# EAGLE library part ESP-01-SLOT (library home-mind)
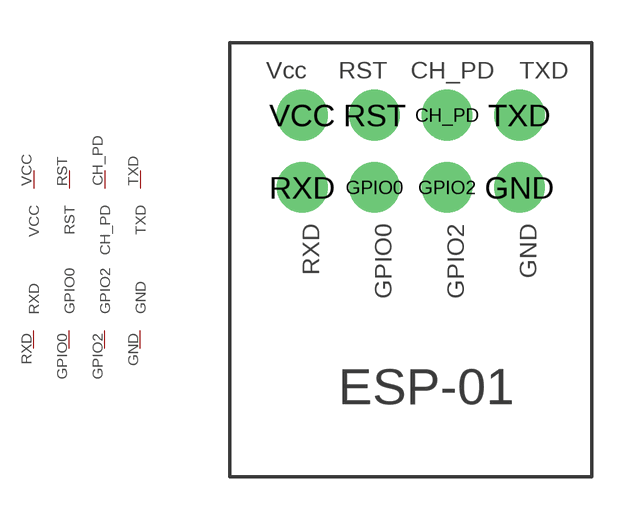
[diagram p9: symbol with the pads of ESP-01-SLOT; footprint ESP-01-SLOT]

Designator prefix -

## ESP-01-SLOT  [ESP-01-SLOT]
CH_PD  CH_PD
GND  GND
GPIO0  GPIO0
GPIO2  GPIO2
RST  RST
RXD  RXD
TXD  TXD
VCC  VCC

## Footprint ESP-01-SLOT (pad centres in mm)
drill 0.9 pad 1.778: CH_PD 1.27,1.27; GND 3.81,-1.27; GPIO0 -1.27,-1.27; GPIO2 1.27,-1.27; RST -1.27,1.27; RXD -3.81,-1.27; TXD 3.81,1.27; VCC -3.81,1.27